# Altium schematic symbol library RES.SchLib: 149 symbols (part 1 of 2)
Pins are listed as number, name and electrical type; pins without a type are passive.

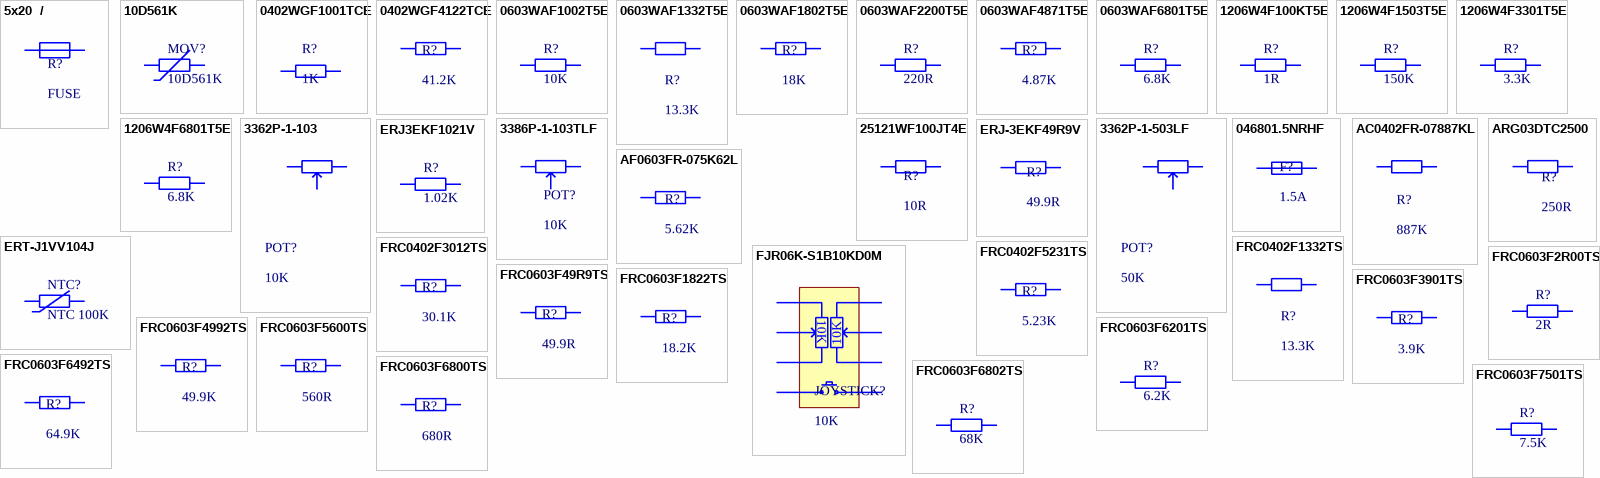
[diagram p0: symbols 5x20  / to FRC0603F7501TS]

## 5x20  /
designator R?, comment FUSE
Cylindrical Clip Through Hole,P=4.8mm Fuseholders RoHS; Manufacturer: Xucheng Elec; Mfr.Part #: 5x20  /; Package: Through Hole,P=4.8mm; LCSC Part #: C3130; DigiKey Part Number: NO; ComponentLink1Description: Link; ComponentLink1URL: https://www.lcsc.com/product-detail/C3130.html
footprint Through Hole,P=4.8mm
pins: 1, 2

## 10D561K
designator MOV?
920V 460V 350V 504V~616V Through Hole,P=7.5mm Varistors, MOVs RoHS; Manufacturer: RUILON; Mfr.Part #: 10D561K; Package: Through Hole,P=7.5mm; LCSC Part #: C233178; DigiKey Part Number: 5789-10D561K-ND
footprint Through Hole,P=7.5mm
pins: 1, 2

## 0402WGF1001TCE
designator R?, comment 1K
62.5mW Thick Film Resistor 50V ±100ppm/℃ ±1% 1kΩ 0402 Chip Resistor - Surface Mount ROHS; Manufacturer: UNI-ROYAL(Uniroyal Elec); Mfr.Part #: 0402WGF1001TCE; Package: 0402; LCSC Part #: C11702; DigiKey Part Number: NO
footprint RES-0402
pins: 1, 2

## 0402WGF4122TCE
designator R?, comment 41.2K
41.2kΩ ±1% 62.5mW 0402 Thick Film Resistor; Manufacturer: UNI-ROYAL; Mfr.Part #: 0402WGF4122TCE; Package: 0402; LCSC Part #: C26978; DigiKey Part Number: NO; ComponentLink1Description: Link; ComponentLink1URL: https://www.lcsc.com/product-detail/C26978.html; ComponentLink2Description: Link 1
footprint RES-0402
pins: 1, 2

## 0603WAF1002T5E
designator R?, comment 10K
10kΩ ±1% 100mW 0603 Thick Film Resistor; Manufacturer: UNI-ROYAL; Mfr.Part #: 0603WAF1002T5E; Package: 0603; LCSC Part #: C25804; DigiKey Part Number: NO; ComponentLink1Description: Link; ComponentLink1URL: https://www.lcsc.com/product-detail/C25804.html?s_z=n_0603WAF1002T5E; ComponentLink2Description: Link 1
footprint RES-0603
pins: 1, 2

## 0603WAF1332T5E
designator R?, comment 13.3K
100mW 13.3kΩ 75V ±100ppm/℃ Thick Film Resistor ±1% 0603 Chip Resistor - Surface Mount ROHS; Manufacturer: UNI-ROYAL; Mfr.Part #: 0603WAF1332T5E; Package: 0603; LCSC Part #: C25952
footprint RES-0603
pins: 1, 2

## 0603WAF1802T5E
designator R?, comment 18K
18kΩ ±1% 100mW 0603 Thick Film Resistor; Manufacturer: UNI-ROYAL; Mfr.Part #: 0603WAF1802T5E; Package: 0603; LCSC Part #: C25810; DigiKey Part Number: NO; ComponentLink1Description: Link; ComponentLink1URL: https://www.lcsc.com/product-detail/C25810.html?s_z=n_18K; ComponentLink2Description: Link 1
footprint RES-0603
footprint RES-0603-1
pins: 1, 2

## 0603WAF2200T5E
designator R?, comment 220R
220Ω ±1% 100mW 0603 Thick Film Resistor; Manufacturer: UNI-ROYAL; Mfr.Part #: 0603WAF2200T5E; Package: 0603; LCSC Part #: C22962; DigiKey Part Number: NO; ComponentLink1Description: Link; ComponentLink1URL: https://www.lcsc.com/product-detail/C22962.html?s_z=n_0603waf22; ComponentLink2Description: Link 1
footprint RES-0603
pins: 1, 2

## 0603WAF4871T5E
designator R?, comment 4.87K
4.87kΩ ±1% 100mW 0603 Thick Film Resistor; Manufacturer: UNI-ROYAL; Mfr.Part #: 0603WAF4871T5E; Package: 0603; LCSC Part #: C23045; DigiKey Part Number: NO; ComponentLink1Description: Link; ComponentLink1URL: https://www.lcsc.com/product-detail/C23045.html?s_z=n_4.87K; ComponentLink2Description: Link 1
footprint RES-0603
pins: 1, 2

## 0603WAF6801T5E
designator R?, comment 6.8K
6.8kΩ ±1% 100mW 0603 Thick Film Resistor; Manufacturer: UNI-ROYAL; Mfr.Part #: 0603WAF6801T5E; Package: 0603; LCSC Part #: C23212; DigiKey Part Number: NO; ComponentLink1Description: Link; ComponentLink1URL: https://www.lcsc.com/product-detail/C23212.html?s_z=n_C23212; ComponentLink2Description: Link 1
footprint RES-0603
pins: 1, 2

## 1206W4F100KT5E
designator R?, comment 1R
1Ω ±1% 250mW 1206 Thick Film Resistor; Manufacturer: UNI-ROYAL; Mfr.Part #: 1206W4F100KT5E; LCSC Part #: C17928; Package: 1206; DigiKey Part Number: NO; ComponentLink1Description: Link; ComponentLink1URL: https://www.lcsc.com/product-detail/C17928.html; ComponentLink2Description: Link 1
footprint RES-1206
pins: 1, 2

## 1206W4F1503T5E
designator R?, comment 150K
150kΩ ±1% 250mW 1206 Thick Film Resistor; Manufacturer: UNI-ROYAL; Mfr.Part #: 1206W4F1503T5E; LCSC Part #: C17916; Package: 1206; DigiKey Part Number: NO; ComponentLink1Description: Link; ComponentLink1URL: https://www.lcsc.com/product-detail/C17916.html; ComponentLink2Description: Link 1
footprint RES-1206
pins: 1, 2

## 1206W4F3301T5E
designator R?, comment 3.3K
3.3kΩ ±1% 250mW 1206 Thick Film Resistor; Manufacturer: UNI-ROYAL; Mfr.Part #: 1206W4F3301T5E; LCSC Part #: C26032; Package: 1206; DigiKey Part Number: NO; ComponentLink1Description: Link; ComponentLink1URL: https://www.lcsc.com/product-detail/C26032.html; ComponentLink2Description: Link 1
footprint RES-1206
pins: 1, 2

## 1206W4F6801T5E
designator R?, comment 6.8K
6.8kΩ ±1% 250mW 1206 Thick Film Resistor; Manufacturer: UNI-ROYAL; Mfr.Part #: 1206W4F6801T5E; LCSC Part #: C26034; Package: 1206; DigiKey Part Number: NO; ComponentLink1Description: Link; ComponentLink1URL: https://www.lcsc.com/product-detail/C26034.html; ComponentLink2Description: Link 1
footprint RES-1206
pins: 1, 2

## 3362P-1-103
designator POT?, comment 10K
±10% 500mW 10kΩ Through Hole Trimmer Potentiometers RoHS; Mfr.Part #: 3362P-1-103; Manufacturer: BOCHEN; Package: Through Hole; LCSC Part #: C118956; DigiKey Part Number: NO
footprint VR-PLUGIN-3P
pins: 1, 2, 3

## 3362P-1-503LF
designator POT?, comment 50K
±10%  50kΩ Through Hole Carbon Film Potentiometer; Mfr.Part #: 3362P-1-503LF; Manufacturer: BOURNS; Package: Through Hole-3P,7x6.6mm; LCSC Part #: C81264; DigiKey Part Number: 3362P-503LF-ND; ComponentLink1Description: Link; ComponentLink1URL: https://www.lcsc.com/product-detail/C81264.html; ComponentLink2Description: Link 1; ComponentLink2URL: https://www.digikey.com/en/products/detail/bourns-inc/3362P-1-503LF/1003342?s=N4IgTCBcDaIMxwGxgAoFoCMaCsAGOAMgGIgC6AvkA
footprint Through Hole-3P,7x6.6mm
pins: 1, 2, 3

## 3386P-1-103TLF
designator POT?, comment 10K
10kΩ ±10% 500mW Through Hole-3P,9.5x9.5mm Potentiometers, Variable Resistors; Mfr.Part #: 3386P-1-103TLF; Manufacturer: BOURNS; RC1206FR-0710RL: 3386P-103TLF-ND; Package: Through Hole-3P,9.5x9.5mm; LCSC Part #: C116302
footprint 3386P
pins: 1, 2, 3

## 25121WF100JT4E
designator R?, comment 10R
1W Thick Film Resistor 200V ±1% ±400ppm/℃ 10Ω 2512 Chip Resistor - Surface Mount ROHS; Manufacturer: UNI-ROYAL; Mfr.Part #: 25121WF100JT4E; Package: 2512; LCSC Part #: C47019
footprint RES-2512
pins: 1, 2

## 046801.5NRHF
designator F?, comment 1.5A
Surface Mount Fuse 1.5A 1206 Fuses RoHS; Manufacturer: Littelfuse; Mfr.Part #: 046801.5NRHF; Package: 1206; LCSC Part #: 046801.5NRHF; DigiKey Part Number: F6023TR-ND
footprint FUSE-1206
pins: 1, 2

## AC0402FR-07887KL
designator R?, comment 887K
887kΩ 62.5mW 50V Thick Film Resistor ±100ppm/℃ ±1% 0402 Chip Resistor - Surface Mount RoHS; Manufacturer: YAGEO; Mfr.Part #: AC0402FR-07887KL; Package: 0402; LCSC Part #: C227254; DigiKey Part Number: 13-AC0402FR-07887KL-ND; ComponentLink1Description: Link; ComponentLink1URL: https://www.lcsc.com/product-detail/C227254.html; ComponentLink2Description: Link 1; ComponentLink2URL: https://www.digikey.com/en/products/detail/yageo/AC0402FR-07887KL/17009638?s=N4IgTCBcDaIIIGEAMAWJYBiAlAtEg7AByH4DSAMiALoC%2BQA
footprint RES-0402
pins: 1, 2

## AF0603FR-075K62L
designator R?, comment 5.62K
100mW Thick Film Resistors ±100ppm/℃ ±1% 5.62kΩ 0603 Chip Resistor - Surface Mount ROHS; Manufacturer: YAGEO; Mfr.Part #: AF0603FR-075K62L; Package: 0603; LCSC Part #: C4173499
footprint RES-0603
pins: 1, 2

## ARG03DTC2500
designator R?, comment 250R
100mW 250Ω 75V ±25ppm/℃ Thin Film Resistor ±0.5% 0603 Chip Resistor - Surface Mount RoHS; Manufacturer: Viking; Mfr.Part #: ARG03DTC2500; Package: 0603; LCSC Part #: C2828652; DigiKey Part Number: NO
footprint RES-0603
pins: 1, 2

## ERJ3EKF1021V
designator R?, comment 1.02K
100mW Thick Film Resistors ±100ppm/℃ ±1% 1.02kΩ 0603 Chip Resistor - Surface Mount ROHS; Manufacturer: PANASONIC; Mfr.Part #: ERJ3EKF1021V; Package: 0603; LCSC Part #: C402868
footprint RES-0603
pins: 1, 2

## ERJ-3EKF49R9V
designator R?, comment 49.9R
49.9 Ohms ±1% 0.1W, 1/10W Chip Resistor 0603 (1608 Metric) Automotive AEC-Q200 Thick Film; Manufacturer: Panasonic Electronic Components; Mfr.Part #: ERJ-3EKF49R9V; Package: 0603; DigiKey Part Number: P49.9HTR-ND; LCSC Part #: C403255
footprint RES-0603
pins: 1, 2

## ERT-J1VV104J
designator NTC?, comment NTC 100K
THERM NTC 100KOHM 4700K 0603; Mfr.Part #: ERT-J1VV104J; Manufacturer: Panasonic Electronic Components; Package: 0603; DigiKey Part Number: P10555TR-ND
footprint RES-0603
pins: 1, 2

## FJR06K-S1B10KD0M
designator JOYSTICK?, comment 10K
Axis Through Hole Joystick Potentiometer 46° 0.0125W; Mfr.Part #: FJR06K-S1B10KD0M; Manufacturer: Favor Electronics; Package: Through Hole; LCSC Part #: NO; DigiKey Part Number: 4434-FJR06K-S1B10KD0M-ND
footprint FJR06K-S1B10KD0M
pins: 1, 1', 2, 2', 3, 3', a, b

## FRC0402F1332TS
designator R?, comment 13.3K
13.3kΩ 62.5mW 50V ±100ppm/℃ Thick Film Resistor ±1% 0402 Chip Resistor - Surface Mount ROHS; Manufacturer: FOJAN; Mfr.Part #: FRC0402F1332TS; Package: 0402; LCSC Part #: C2974007
footprint RES-0402
pins: 1, 2

## FRC0402F3012TS
designator R?, comment 30.1K
30.1kΩ ±1% 62.5mW 0402 Thick Film Resistor; Manufacturer: FOJAN; Mfr.Part #: FRC0402F3012TS; Package: 0402; LCSC Part #: C2998131; DigiKey Part Number: NO; ComponentLink1Description: Link; ComponentLink1URL: https://www.lcsc.com/product-detail/C2998131.html; ComponentLink2Description: Link 1
footprint RES-0402
pins: 1, 2

## FRC0402F5231TS
designator R?, comment 5.23K
5.23kΩ ±1% 62.5mW 0402 Thick Film Resistor; Manufacturer: FOJAN; Mfr.Part #: FRC0402F5231TS; Package: 0402; LCSC Part #: C2933105; DigiKey Part Number: NO; ComponentLink1Description: Link; ComponentLink1URL: https://www.lcsc.com/product-detail/C2933105.html; ComponentLink2Description: Link 1
footprint RES-0402
pins: 1, 2

## FRC0603F2R00TS
designator R?, comment 2R
2Ω ±1% 100mW 0603 Thick Film Resistor; Manufacturer: FOJAN; Mfr.Part #: FRC0603F2R00TS; Package: 0603; LCSC Part #: C2933191; DigiKey Part Number: NO; ComponentLink1Description: Link; ComponentLink1URL: https://www.lcsc.com/product-detail/C2933191.html?s_z=n_2R&spm=wm.ssy.bg.0.xh&lcsc_vid=QVhYA1deElkMBVEAQVVWVAECEVVXUAcCTgNYUQVSEVAxVlNRQ1JaVVBRT1heXjsOAxUeFF5JWBYZEEoKFBINSQcJGk4dAgUUFAk%3D; ComponentLink2Description: Link 1
footprint RES-0603
pins: 1, 2

## FRC0603F49R9TS
designator R?, comment 49.9R
49.9Ω ±1% 100mW 0603 Thick Film Resistor; Manufacturer: FOJAN; Mfr.Part #: FRC0603F4992TS; Package: 0603; LCSC Part #: C2930110; DigiKey Part Number: NO; ComponentLink1Description: Link; ComponentLink1URL: https://www.lcsc.com/product-detail/C2930110.html?s_z=n_49.9; ComponentLink2Description: Link 1
footprint RES-0603
pins: 1, 2

## FRC0603F1822TS
designator R?, comment 18.2K
18.2kΩ ±1% 100mW 0603 Thick Film Resistor; Manufacturer: FOJAN; Mfr.Part #: FRC0603F1822TS; Package: 0603; LCSC Part #: C2933164; DigiKey Part Number: NO; ComponentLink1Description: Link; ComponentLink1URL: https://www.lcsc.com/product-detail/C2933164.html?s_z=n_18.2K; ComponentLink2Description: Link 1
footprint RES-0603
pins: 1, 2

## FRC0603F3901TS
designator R?, comment 3.9K
3.9kΩ ±1% 100mW 0603 Thick Film Resistor; Manufacturer: FOJAN; Mfr.Part #: FRC0603F3901TS; Package: 0603; LCSC Part #: C2907024; DigiKey Part Number: NO; ComponentLink1Description: Link; ComponentLink1URL: https://www.lcsc.com/product-detail/C2907024.html?s_z=n_3.9K; ComponentLink2Description: Link 1
footprint RES-0603
pins: 1, 2

## FRC0603F4992TS
designator R?, comment 49.9K
49.9kΩ ±1% 100mW 0603 Thick Film Resistor; Manufacturer: FOJAN; Mfr.Part #: FRC0603F4992TS; Package: 0603; LCSC Part #: C2930109; DigiKey Part Number: NO; ComponentLink1Description: Link; ComponentLink1URL: https://www.lcsc.com/product-detail/C2930109.html?s_z=n_49.9K; ComponentLink2Description: Link 1
footprint RES-0603
pins: 1, 2

## FRC0603F5600TS
designator R?, comment 560R
560Ω ±1% 100mW 0603 Thick Film Resistor; Manufacturer: FOJAN; Mfr.Part #: FRC0603F6492TS; Package: 0603; LCSC Part #: C2907052; DigiKey Part Number: NO; ComponentLink1Description: Link; ComponentLink1URL: https://www.lcsc.com/product-detail/C2907052.html?s_z=n_560r; ComponentLink2Description: Link 1
footprint RES-0603
footprint RES-0603-2
pins: 1, 2

## FRC0603F6201TS
designator R?, comment 6.2K
6.2kΩ ±1% 100mW 0603 Thick Film Resistor; Manufacturer: FOJAN; Mfr.Part #: FRC0603F6201TS; Package: 0603; LCSC Part #: C2907054; DigiKey Part Number: NO; ComponentLink1Description: Link; ComponentLink1URL: https://www.lcsc.com/product-detail/C2907054.html?s_z=n_6.2K; ComponentLink2Description: Link 1
footprint RES-0603
pins: 1, 2

## FRC0603F6492TS
designator R?, comment 64.9K
64.9kΩ ±1% 100mW 0603 Thick Film Resistor; Manufacturer: FOJAN; Mfr.Part #: FRC0603F6492TS; Package: 0603; LCSC Part #: C2960807; DigiKey Part Number: NO; ComponentLink1Description: Link; ComponentLink1URL: https://www.lcsc.com/product-detail/C2960807.html; ComponentLink2Description: Link 1
footprint RES-0603
pins: 1, 2

## FRC0603F6800TS
designator R?, comment 680R
680Ω ±1% 100mW 0603 Thick Film Resistor; Manufacturer: FOJAN; Mfr.Part #: FRC0603F6800TS; Package: 0603; LCSC Part #: C2907062; DigiKey Part Number: NO; ComponentLink1Description: Link; ComponentLink1URL: https://www.lcsc.com/product-detail/C2907062.html?s_z=n_680r; ComponentLink2Description: Link 1
footprint RES-0603
pins: 1, 2

## FRC0603F6802TS
designator R?, comment 68K
68kΩ ±1% 100mW 0603 Thick Film Resistor; Manufacturer: FOJAN; Mfr.Part #: FRC0603F6802TS; Package: 0603; LCSC Part #: C2907063; DigiKey Part Number: NO; ComponentLink1Description: Link; ComponentLink1URL: https://www.lcsc.com/product-detail/C2907063.html?s_z=n_68K; ComponentLink2Description: Link 1
footprint RES-0603
pins: 1, 2

## FRC0603F7501TS
designator R?, comment 7.5K
7.5kΩ ±1% 100mW 0603 Thick Film Resistor; Manufacturer: FOJAN; Mfr.Part #: FOJAN; Package: 0603; LCSC Part #: C2930127; DigiKey Part Number: NO; ComponentLink1Description: Link; ComponentLink1URL: https://www.lcsc.com/product-detail/C2930127.html?s_z=n_7.5K&spm=wm.ssy.bg.0.xh&lcsc_vid=QVhYA1deElkMBVEAQVVWVAECEVVXUAcCTgNYUQVSEVAxVlNRQ1JdUlBST1daVzsOAxUeFF5JWBYZEEoKFBINSQcJGk4eFQsCAgIaSgADAwAHC0slRVVbVV1fT08GEwkK; ComponentLink2Description: Link 1
footprint RES-0603
pins: 1, 2

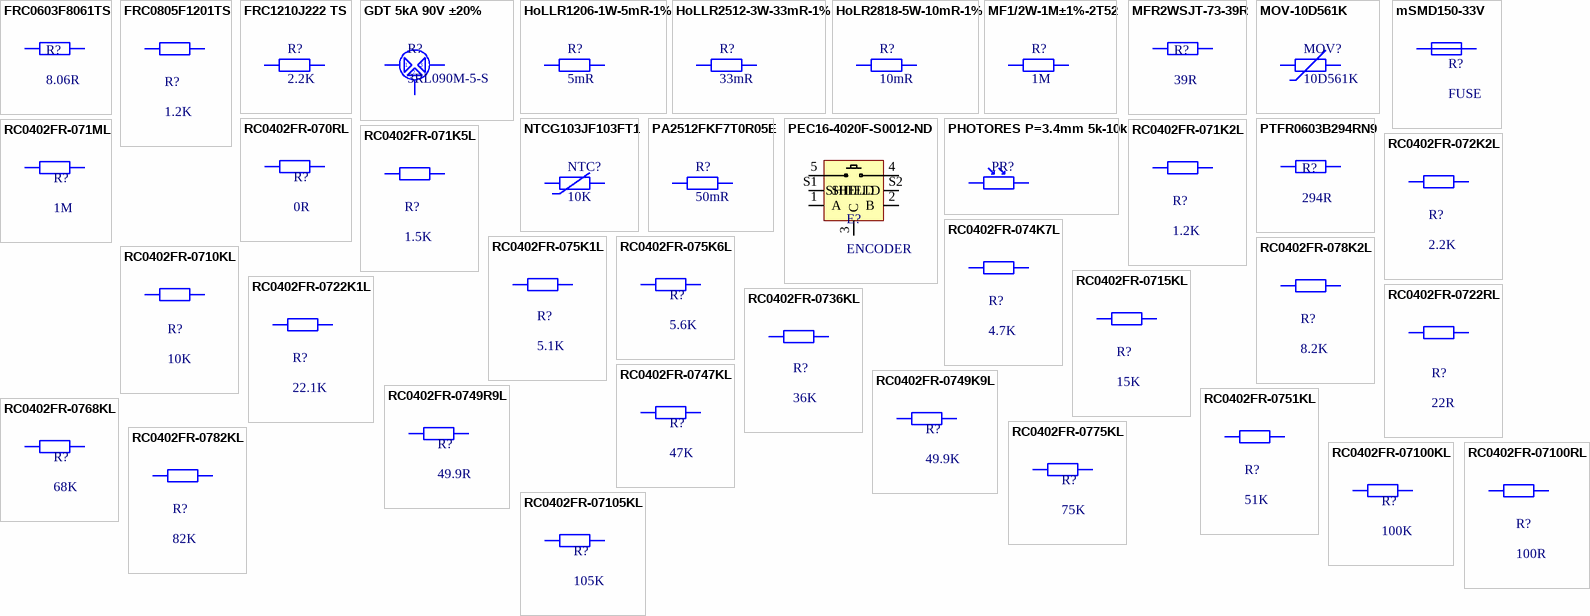
[diagram p1: symbols FRC0603F8061TS to RC0402FR-07105KL]

## FRC0603F8061TS
designator R?, comment 8.06R
8.06kΩ ±1% 100mW 0603 Thick Film Resistor; Manufacturer: FOJAN; Mfr.Part #: FRC0603F8061TS; Package: 0603; LCSC Part #: C2960681; DigiKey Part Number: NO; ComponentLink1Description: Link; ComponentLink1URL: https://www.lcsc.com/product-detail/C2960681.html?s_z=n_8.06; ComponentLink2Description: Link 1
footprint RES-0603
pins: 1, 2

## FRC0805F1201TS
designator R?, comment 1.2K
1.2kΩ ±1% 125mW 0805 Thick Film Resistor; Manufacturer: FOJAN; Mfr.Part #: FRC0805F1201TS; Package: 0805; LCSC Part #: C2933293; DigiKey Part Number: NO; ComponentLink1Description: Link; ComponentLink1URL: https://www.lcsc.com/product-detail/C2933293.html?s_z=n_1.2K; ComponentLink2Description: Link 1
footprint RES-0805-1
footprint RES-0805
pins: 1, 2

## FRC1210J222 TS
designator R?, comment 2.2K
500mW Thick Film Resistors 200V ±100ppm/℃ ±5% 2.2kΩ 1210 Chip Resistor - Surface Mount ROHS; Manufacturer: FOJAN; Mfr.Part #: FRC1210J222 TS; Package: 1210; LCSC Part #: C2960928
footprint RES-1210
pins: 1, 2

## GDT 5kA 90V ±20%
designator R?, comment 3RL090M-5-S
±20% 5kA 90V 3 SMD,5x6.6mm Gas Discharge Tube Arresters (GDT) ROHS; Manufacturer: Brightking; Name: GDT 5kA 90V ±20%; So_Chan_Dan: 3; So_Chan_Cam: 0; Mfr.Part #: 3RL090M-5-S; Package: SMD,5x6.6mm
footprint SMD,5x6.6mm
pins: 1, 2, 3

## HoLLR1206-1W-5mR-1%
designator R?, comment 5mR
1W 5mΩ Current Sense Resistor ±1% ±50ppm/℃ 1206 Chip Resistor - Surface Mount RoHS; Manufacturer: Milliohm; Mfr.Part #: HoLLR1206-1W-5mR-1%; Package: 1206; LCSC Part #: C2988648; DigiKey Part Number: NO; ComponentLink1Description: Link; ComponentLink1URL: https://www.lcsc.com/product-detail/C2988648.html?spm=wm.fly.bg.4.xh&lcsc_vid=FAdbA1BQFQNeV1UEFlgLA1FWRVFXUVBeEwJXVAFQRVUxVlNRQ1NbVFVRQFdeVzsOAxUeFF5JWBYZEEoKFBINSQcJGk4dAgUUFAk%3D; ComponentLink2Description: Link 1
footprint RES-1206
pins: 1, 2

## HoLLR2512-3W-33mR-1%
designator R?, comment 33mR
33mΩ 3W Current Sense Resistor ±1% ±50ppm/℃ 2512 Chip Resistor - Surface Mount RoHS; Manufacturer: Milliohm; Mfr.Part #: HoLLR2512-3W-33mR-1%; Package: 2512; LCSC Part #: C2985721; DigiKey Part Number: NO; ComponentLink1Description: Link; ComponentLink1URL: https://www.lcsc.com/product-detail/C2985721.html?spm=wm.fly.bg.0.xh&lcsc_vid=EQVeAlBQE1lfUQdeRVANVgZXElUKUAUCRwdWVVRWQVUxVlNRQ1hbUlRURFJdVDtW; ComponentLink2Description: Link 1
footprint RES-2512
pins: 1, 2

## HoLR2818-5W-10mR-1%
designator R?, comment 10mR
5W 10mΩ Patch Current Sensing Resistors ±1% 2818 Current Sense Resistors / Shunt Resistors ROHS; Manufacturer: Milliohm; Mfr.Part #: HoLR2818-5W-10mR-1%; Package: 2818
footprint RES-0603
pins: 1, 2

## MF1/2W-1M±1%-2T52
designator R?, comment 1M
Metal Film Resistors 1MΩ 500mW ±100ppm/℃ ±1% Plugin,D3.5xL9mm Through Hole Resistors ROHS; Manufacturer: VO; Mfr.Part #: MF1/2W-1M±1%-2T52; So_Chan_Dan: 2; So_Chan_Cam: 0; Package: Plugin,D3.5xL9mm; Name: MF1/2W-1M±1%-2T52
footprint Plugin,D3.5xL9mm
pins: 1, 2

## MFR2WSJT-73-39R
designator R?, comment 39R
39Ω 2W Metal Film Resistor ±5% Through Hole,D4.5xL11.5mm Through Hole Resistors RoHS; Manufacturer: YAGEO; Mfr.Part #: MFR2WSJT-73-39R; Package: Through Hole,D4.5xL11.5mm; LCSC Part #: C176578; DigiKey Part Number: NO; ComponentLink1Description: Link; ComponentLink1URL: https://www.lcsc.com/product-detail/C176578.html?s_z=n_C176578; ComponentLink2Description: Link 1
footprint Plugin,D4.5xL11.5mm
pins: 1, 2

## MOV-10D561K
designator MOV?, comment 10D561K
925V 460V 350V 560V Through Hole,P=7.5mm Varistors, MOVs ROHS; Manufacturer: Bourns Inc.; Mfr.Part #: MOV-10D561K; Package: Through Hole,P=7.5mm; LCSC Part #: C3263770; DigiKey Part Number: 118-MOV-10D561K-ND
footprint Through Hole,P=7.5mm - 1
pins: 1, 2

## mSMD150-33V
designator R?, comment FUSE
33V 1.5A 100A 3A 1812 Resettable Fuses ROHS; Manufacturer: TECHFUSE; Mfr.Part #: mSMD150-33V; Package: 1812; LCSC Part #: C2937110
footprint CAP-0402
pins: 1, 2

## NTCG103JF103FT1
designator NTC?, comment 10K
10kΩ ±1% 310uA 3380K 100mW ±1% 0402 NTC Thermistors RoHS; Mfr.Part #: NTCG103JF103FT1; Manufacturer: TDK; Package: 0402; DigiKey Part Number: 445-2550-2-ND; LCSC Part #: C209959
footprint CAP-0402
pins: 1, 2

## PA2512FKF7T0R05E
designator R?, comment 50mR
3W ±100ppm/℃ ±1% 50mΩ 2512 Chip Resistor - Surface Mount ROHS; Manufacturer: YAGEO; Mfr.Part #: PA2512FKF7T0R05E; Package: 2512
footprint RES-2512
pins: 1, 2

## PEC16-4020F-S0012-ND
designator E?, comment ENCODER
Rotary Encoder Mechanical 12 Quadrature (Incremental) Vertical; Manufacturer: Bourns Inc.; Mfr.Part #: PEC16-4020F-S0012; Package: Through Hole; LCSC Part #: NO; DigiKey Part Number: PEC16-4020F-S0012-ND
footprint EC16
pins: 1 A, 2 B, 3 C, 4 BT2, 5 BT1, S1 SHIELD, S2 SHIELD

## PHOTORES P=3.4mm 5k-10k
designator PR?, comment Photoresistors  (value not drawn)
5kΩ~10kΩ 540nm 200kΩ Plugin,P=3.4mm Photoresistors ROHS; Mfr.Part #: GL5516(5-10); Manufacturer: JCHL(Shenzhen Jing Chuang He Li Tech); So_Chan_Dan: 0; Name: PHOTORES  5kΩ~10kΩ 540nm Plugin,P=3.4mm; So_Chan_Cam: 2; Package: Plugin,P=3.4mm
footprint Plugin,P=3.4mm
pins: 1, 2

## PTFR0603B294RN9
designator R?, comment 294R
100mW 294Ω 100V Thin Film Resistor ±0.1% ±10ppm/℃ 0603 Chip Resistor - Surface Mount RoHS; Manufacturer: RESI; Mfr.Part #: PTFR0603B294RN9; Package: 0603; LCSC Part #: C47115923; DigiKey Part Number: NO; ComponentLink1Description: Link; ComponentLink1URL: https://www.lcsc.com/product-detail/C47115923.html; ComponentLink2Description: Link 1
footprint CAP-0603
pins: 1, 2

## RC0402FR-070RL
designator R?, comment 0R
62.5mW Thick Film Resistor 50V ±1% 0Ω 0402 Chip Resistor - Surface Mount ROHS; Manufacturer: YAGEO; Mfr.Part #: RC0402FR-070RL; Package: 0402; LCSC Part #: C106231; DigiKey Part Number: 311-0.0LRTR-ND
footprint RES-0402
pins: 1, 2

## RC0402FR-071K2L
designator R?, comment 1.2K
62.5mW 1.2kΩ 50V ±100ppm/℃ Thick Film Resistor ±1% 0402 Chip Resistor - Surface Mount RoHS; Manufacturer: YAGEO; Mfr.Part #: RC0402FR-071K2L; Package: 0402; LCSC Part #: C138040; DigiKey Part Number: 311-1.20KLRTR-ND
footprint RES-0402
pins: 1, 2

## RC0402FR-071K5L
designator R?, comment 1.5K
62.5mW 1.5kΩ 50V ±100ppm/℃ Thick Film Resistor ±1% 0402 Chip Resistor - Surface Mount RoHS; Manufacturer: YAGEO; Mfr.Part #: RC0402FR-071K5L; Package: 0402; LCSC Part #: C114759; DigiKey Part Number: 311-1.50KLRTR-ND
footprint RES-0402
pins: 1, 2

## RC0402FR-071ML
designator R?, comment 1M
62.5mW Thick Film Resistor 50V ±100ppm/℃ ±1% 1MΩ 0402 Chip Resistor - Surface Mount ROHS; Manufacturer: YAGEO; Mfr.Part #: RC0402FR-071ML; Package: 0402; LCSC Part #: C138033
footprint RES-0402
pins: 1, 2

## RC0402FR-072K2L
designator R?, comment 2.2K
62.5mW 2.2kΩ 50V ±100ppm/℃ Thick Film Resistor ±1% 0402 Chip Resistor - Surface Mount RoHS; Manufacturer: YAGEO; Mfr.Part #: RC0402FR-072K2L; Package: 0402; LCSC Part #: C114762; DigiKey Part Number: 311-2.20KLRTR-ND
footprint RES-0402
pins: 1, 2

## RC0402FR-074K7L
designator R?, comment 4.7K
62.5mW Thick Film Resistor 50V ±100ppm/℃ ±1% 4.7kΩ 0402 Chip Resistor - Surface Mount ROHS; Manufacturer: YAGEO; Mfr.Part #: RC0402FR-074K7L; Package: 0402; LCSC Part #: C105871; DigiKey Part Number: 311-4.7KLRTR-ND
footprint RES-0402
pins: 1, 2

## RC0402FR-075K1L
designator R?, comment 5.1K
5.1kΩ 62.5mW 50V ±100ppm/℃ Thick Film Resistor ±1% 0402 Chip Resistor - Surface Mount RoHS; Manufacturer: YAGEO; Mfr.Part #: RC0402FR-075K1L; Package: 0402; LCSC Part #: C105872; DigiKey Part Number: 311-5.10KLRTR-ND
footprint RES-0402
pins: 1, 2

## RC0402FR-075K6L
designator R?, comment 5.6K
5.6kΩ 62.5mW 50V ±100ppm/℃ Thick Film Resistor ±1% 0402 Chip Resistor - Surface Mount ROHS; Manufacturer: YAGEO; Mfr.Part #: RC0402FR-075K6L; Package: 0402; LCSC Part #: C163457
footprint RES-0402
pins: 1, 2

## RC0402FR-078K2L
designator R?, comment 8.2K
8.2kΩ 62.5mW 50V ±100ppm/℃ Thick Film Resistor ±1% 0402 Chip Resistor - Surface Mount RoHS; Manufacturer: YAGEO; Mfr.Part #: RC0402FR-078K2L; Package: 0402; LCSC Part #: C137929; DigiKey Part Number: 311-8.20KLRTR-ND
footprint RES-0402
pins: 1, 2

## RC0402FR-0710KL
designator R?, comment 10K
62.5mW Thick Film Resistors 50V ±100ppm/℃ ±1% 10kΩ 0402 Chip Resistor - Surface Mount ROHS; Manufacturer: YAGEO; Mfr.Part #: RC0402FR-0710KL; Package: 0402; LCSC Part #: C60490; DigiKey Part Number: 311-10.0KLRTR-ND
footprint RES-0402
pins: 1, 2

## RC0402FR-0715KL
designator R?, comment 15K
15kΩ 62.5mW 50V Thick Film Resistor ±100ppm/℃ ±1% 0402 Chip Resistor - Surface Mount RoHS; Manufacturer: YAGEO; Mfr.Part #: RC0402FR-0715KL; Package: 0402; LCSC Part #: C114761; DigiKey Part Number: 311-4.7KLRTR-ND; ComponentLink1Description: Link; ComponentLink1URL: https://www.lcsc.com/product-detail/C114761.html?s_z=n_15K; ComponentLink2Description: Link 1; ComponentLink2URL: https://www.digikey.com/en/products/detail/yageo/RC0402FR-0715KL/726541?s=N4IgTCBcDaIEoGEAMAWJYBicC0SDsAjAKwDSAMiALoC%2BQA
footprint RES-0402
pins: 1, 2

## RC0402FR-0722K1L
designator R?, comment 22.1K
22.1kΩ 62.5mW 50V ±100ppm/℃ Thick Film Resistor ±1% 0402 Chip Resistor - Surface Mount RoHS; Manufacturer: YAGEO; Mfr.Part #: RC0402FR-0722K1L; Package: 0402; LCSC Part #: C163478; DigiKey Part Number: 311-22.1KLRTR-ND
footprint RES-0402
pins: 1, 2

## RC0402FR-0722RL
designator R?, comment 22R
62.5mW Thick Film Resistor 50V ±100ppm/℃ ±1% 22Ω 0402 Chip Resistor - Surface Mount ROHS; Manufacturer: YAGEO; Mfr.Part #: RC0402FR-0722RL; Package: 0402; LCSC Part #: C114765; DigiKey Part Number: 311-22.0LRTR-ND
footprint RES-0402
pins: 1, 2

## RC0402FR-0736KL
designator R?, comment 36K
62.5mW Thick Film Resistor 50V ±100ppm/℃ ±1% 36kΩ 0402 Chip Resistor - Surface Mount ROHS; Manufacturer: YAGEO; Mfr.Part #: RC0402FR-0736KL; Package: 0402; LCSC Part #: C137999; DigiKey Part Number: 311-36.0KLRTR-ND
footprint RES-0402
pins: 1, 2

## RC0402FR-0747KL
designator R?, comment 47K
62.5mW Thick Film Resistor 50V ±1% 0Ω 0402 Chip Resistor - Surface Mount ROHS; Manufacturer: YAGEO; Mfr.Part #: RC0402FR-0747KL; Package: 0402; LCSC Part #: C93943; DigiKey Part Number: 311-47.0KLRTR-ND
footprint RES-0402
pins: 1, 2

## RC0402FR-0749K9L
designator R?, comment 49.9K
62.5mW 49.9kΩ 50V ±100ppm/℃ Thick Film Resistor ±1% 0402 Chip Resistor - Surface Mount ROHS; Manufacturer: YAGEO; Mfr.Part #: RC0402FR-0749K9L; Package: 0402; LCSC Part #: C137969
footprint RES-0402
pins: 1, 2

## RC0402FR-0749R9L
designator R?, comment 49.9R
49.9Ω 62.5mW 50V ±100ppm/℃ Thick Film Resistor ±1% 0402 Chip Resistor - Surface Mount ROHS; Manufacturer: YAGEO; Mfr.Part #: RC0402FR-0749R9L; Package: 0402; LCSC Part #: C87044; DigiKey Part Number: 311-49.9LRTR-ND
footprint RES-0402
pins: 1, 2

## RC0402FR-0751KL
designator R?, comment 51K
62.5mW 51kΩ 50V ±100ppm/℃ Thick Film Resistor ±1% 0402 Chip Resistor - Surface Mount RoHS; Manufacturer: YAGEO; Mfr.Part #: RC0402FR-0751KL; Package: 0402; LCSC Part #: C107229; DigiKey Part Number: 311-51.0KLRTR-ND
footprint RES-0402
pins: 1, 2

## RC0402FR-0768KL
designator R?, comment 68K
68kΩ 62.5mW 50V ±100ppm/℃ Thick Film Resistor ±1% 0402 Chip Resistor - Surface Mount RoHS; Manufacturer: YAGEO; Mfr.Part #: RC0402FR-0768KL; Package: 0402; LCSC Part #: C137947; DigiKey Part Number: 311-68.0KLRTR-ND
footprint RES-0402
pins: 1, 2

## RC0402FR-0775KL
designator R?, comment 75K
62.5mW Thick Film Resistor 50V ±1% 0Ω 0402 Chip Resistor - Surface Mount ROHS; Manufacturer: YAGEO; Mfr.Part #: RC0402FR-0775KL; Package: 0402; LCSC Part #: C137935
footprint RES-0402
pins: 1, 2

## RC0402FR-0782KL
designator R?, comment 82K
62.5mW 82kΩ 50V ±100ppm/℃ Thick Film Resistor ±1% 0402 Chip Resistor - Surface Mount RoHS; Manufacturer: YAGEO; Mfr.Part #: RC0402FR-0782KL; Package: 0402; LCSC Part #: C137932; DigiKey Part Number: 311-82.0KLRTR-ND
footprint RES-0402
pins: 1, 2

## RC0402FR-07100KL
designator R?, comment 100K
62.5mW Thick Film Resistors 50V ±100ppm/℃ ±1% 100kΩ 0402 Chip Resistor - Surface Mount ROHS; Manufacturer: YAGEO; Mfr.Part #: RC0402FR-07100KL; Package: 0402; LCSC Part #: C60491; DigiKey Part Number: 311-100KLRTR-ND
footprint RES-0402
pins: 1, 2

## RC0402FR-07100RL
designator R?, comment 100R
62.5mW Thick Film Resistors 50V ±100ppm/℃ ±1% 100Ω 0402 Chip Resistor - Surface Mount ROHS; Manufacturer: YAGEO; Mfr.Part #: RC0402FR-07100RL; Package: 0402; LCSC Part #: C106232; DigiKey Part Number: 311-100LRTR-ND
footprint RES-0402
pins: 1, 2

## RC0402FR-07105KL
designator R?, comment 105K
62.5mW 105kΩ 50V ±100ppm/℃ Thick Film Resistor ±1% 0402 Chip Resistor - Surface Mount ROHS; Manufacturer: YAGEO; Mfr.Part #: RC0402FR-07105KL; Package: 0402; LCSC Part #: C171671; DigiKey Part Number: YAG2946TR-ND
footprint RES-0402
pins: 1, 2

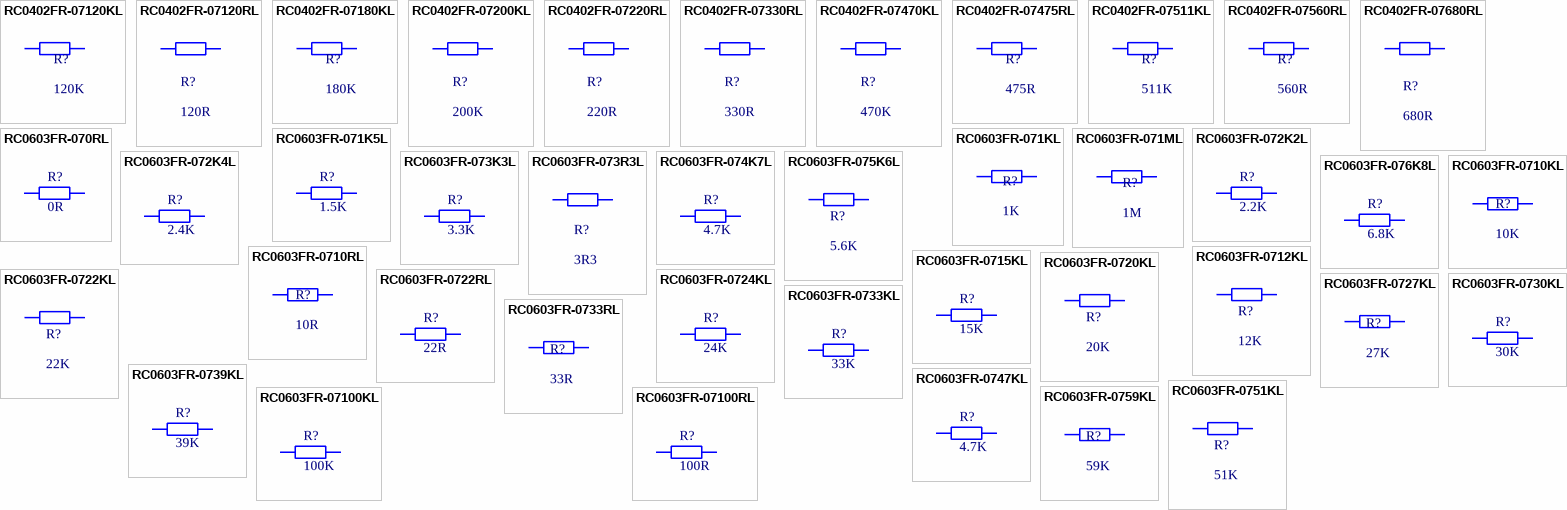
[diagram p2: symbols RC0402FR-07120KL to RC0603FR-07100RL]

## RC0402FR-07120KL
designator R?, comment 120K
62.5mW 120kΩ 50V ±100ppm/℃ Thick Film Resistor ±1% 0402 Chip Resistor - Surface Mount RoHS; Manufacturer: YAGEO; Mfr.Part #: RC0402FR-07120KL; Package: 0402; LCSC Part #: C93945; DigiKey Part Number: 311-120KLRTR-ND
footprint RES-0402
pins: 1, 2

## RC0402FR-07120RL
designator R?, comment 120R
120Ω 62.5mW 50V ±100ppm/℃ Thick Film Resistor ±1% 0402 Chip Resistor - Surface Mount RoHS; Manufacturer: YAGEO; Mfr.Part #: RC0402FR-07120RL; Package: 0402; LCSC Part #: C114758; DigiKey Part Number: 311-120LRTR-ND
footprint RES-0402
pins: 1, 2

## RC0402FR-07180KL
designator R?, comment 180K
62.5mW 180kΩ 50V ±100ppm/℃ Thick Film Resistor ±1% 0402 Chip Resistor - Surface Mount RoHS; Manufacturer: YAGEO; Mfr.Part #: RC0402FR-07180KL; Package: 0402; LCSC Part #: C138046; DigiKey Part Number: 311-180KLRTR-ND
footprint RES-0402
pins: 1, 2

## RC0402FR-07200KL
designator R?, comment 200K
200kΩ 62.5mW 50V Thick Film Resistor ±100ppm/℃ ±1% 0402 Chip Resistor - Surface Mount RoHS; Manufacturer: YAGEO; Mfr.Part #: RC0402FR-07200KL; Package: 0402; LCSC Part #: C114763; DigiKey Part Number: 311-200KLRTR-ND; ComponentLink1Description: Link; ComponentLink1URL: https://www.lcsc.com/product-detail/C114763.html?s_z=n_200K; ComponentLink2Description: Link 1; ComponentLink2URL: https://www.digikey.com/en/products/detail/yageo/RC0402FR-07200KL/726558?s=N4IgTCBcDaIEoGEAMAWJYBicC0SDsYSSA0gDIgC6AvkA
footprint RES-0402
pins: 1, 2

## RC0402FR-07220RL
designator R?, comment 220R
62.5mW Thick Film Resistors 50V ±100ppm/℃ ±1% 220Ω 0402 Chip Resistor - Surface Mount ROHS; Manufacturer: YAGEO; Mfr.Part #: RC0402FR-07220RL; Package: 0402; LCSC Part #: C112291; DigiKey Part Number: 311-220LRTR-ND
footprint RES-0402
pins: 1, 2

## RC0402FR-07330RL
designator R?, comment 330R
330Ω 62.5mW 50V ±100ppm/℃ Thick Film Resistor ±1% 0402 Chip Resistor - Surface Mount RoHS; Manufacturer: YAGEO; Mfr.Part #: RC0402FR-07330RL; Package: 0402; LCSC Part #: C105875; DigiKey Part Number: 311-330LRTR-ND
footprint RES-0402
pins: 1, 2

## RC0402FR-07470KL
designator R?, comment 470K
62.5mW 470kΩ 50V Thick Film Resistor ±100ppm/℃ ±1% 0402 Chip Resistor - Surface Mount RoHS; Manufacturer: YAGEO; Mfr.Part #: RC0402FR-07470KL; Package: 0402; LCSC Part #: C137976; DigiKey Part Number: 311-470KLRTR-ND; ComponentLink1Description: Link; ComponentLink1URL: https://www.lcsc.com/product-detail/C137976.html?s_z=n_470K; ComponentLink2Description: Link 1; ComponentLink2URL: https://www.digikey.com/en/products/detail/yageo/RC0402FR-07470KL/726618?s=N4IgTCBcDaIEoGEAMAWJYBicC0SDsKeSA0gDIgC6AvkA
footprint RES-0402
pins: 1, 2

## RC0402FR-07475RL
designator R?, comment 475R
62.5mW Thick Film Resistor 50V ±100ppm/℃ ±1% 475Ω 0402 Chip Resistor - Surface Mount ROHS; Manufacturer: YAGEO; Mfr.Part #: RC0402FR-07475RL; Package: 0402; LCSC Part #: C137975; DigiKey Part Number: 311-475LRTR-ND
footprint RES-0402
pins: 1, 2

## RC0402FR-07511KL
designator R?, comment 511K
511kΩ 62.5mW 50V ±100ppm/℃ Thick Film Resistor ±1% 0402 Chip Resistor - Surface Mount ROHS; Manufacturer: YAGEO; Mfr.Part #: RC0402FR-07511KL; Package: 0402; LCSC Part #: C163461; DigiKey Part Number: YAG3176TR-ND
footprint RES-0402
pins: 1, 2

## RC0402FR-07560RL
designator R?, comment 560R
62.5mW 560Ω 50V ±100ppm/℃ Thick Film Resistor ±1% 0402 Chip Resistor - Surface Mount ROHS; Manufacturer: YAGEO; Mfr.Part #: RC0402FR-07560RL; Package: 0402; LCSC Part #: C163460
footprint RES-0402
pins: 1, 2

## RC0402FR-07680RL
designator R?, comment 680R
62.5mW Thick Film Resistors 50V ±100ppm/℃ ±1% 680Ω 0402 Chip Resistor - Surface Mount ROHS; Manufacturer: YAGEO; Mfr.Part #: RC0402FR-07680RL; Package: 0402; LCSC Part #: C137948
footprint RES-0402
pins: 1, 2

## RC0603FR-070RL
designator R?, comment 0R
0Ω 100mW 75V Thick Film Resistor ±1% 0603 Chip Resistor - Surface Mount RoHS; Mfr.Part #: RC0603FR-070RL; Manufacturer: YAGEO; Package: 0603; LCSC Part #: C100044; DigiKey Part Number: 311-0.0HRTR-ND; ComponentLink1Description: Link; ComponentLink1URL: https://www.lcsc.com/product-detail/C100044.html?s_z=n_0R; ComponentLink2Description: Link 1; ComponentLink2URL: https://www.digikey.com/en/products/detail/yageo/RC0603FR-070RL/1304008?s=N4IgTCBcDaIEoGEAMA2JBmAYnAtEg7EnADIgC6AvkA
footprint RES-0603
pins: 1, 2

## RC0603FR-071K5L
designator R?, comment 1.5K
100mW 1.5kΩ 75V Thick Film Resistor ±100ppm/℃ ±1% 0603 Chip Resistor - Surface Mount RoHS; Manufacturer: YAGEO; Mfr.Part #: RC0603FR-071K5L; Package: 0603; LCSC Part #: C114668; DigiKey Part Number: 311-1.50KHRTR-ND; ComponentLink1Description: Link; ComponentLink1URL: https://www.lcsc.com/product-detail/C114668.html?s_z=n_1.5K; ComponentLink2Description: Link 1; ComponentLink2URL: https://www.digikey.com/en/products/detail/yageo/RC0603FR-071K5L/726864?s=N4IgTCBcDaIEoGEAMA2JBmAYnAtEg7AIwDSArADIgC6AvkA
footprint RES-0603
pins: 1, 2

## RC0603FR-071KL
designator R?, comment 1K
100mW 1kΩ 75V Thick Film Resistor ±100ppm/℃ ±1% 0603 Chip Resistor - Surface Mount RoHS; Manufacturer: YAGEO; Mfr.Part #: RC0603FR-071KL; Package: 0603; LCSC Part #: C22548; DigiKey Part Number: 311-1.00KHRTR-ND; ComponentLink1Description: Link; ComponentLink1URL: https://www.lcsc.com/product-detail/C22548.html?s_z=n_C22548; ComponentLink2Description: Link 1; ComponentLink2URL: https://www.digikey.com/en/products/detail/yageo/RC0603FR-071KL/726843?s=N4IgTCBcDaIEoGEAMA2JBmAYnAtEg7AIwDSAMiALoC%2BQA
footprint RES-0603
pins: 1, 2

## RC0603FR-071ML
designator R?, comment 1M
100mW Thick Film Resistors 75V ±100ppm/℃ ±1% 1MΩ 0603 Chip Resistor - Surface Mount ROHS; Manufacturer: YAGEO; Mfr.Part #: RC0603FR-071ML; Package: 0603; LCSC Part #: C105578
footprint RES-0603
pins: 1, 2

## RC0603FR-072K2L
designator R?, comment 2.2K
100mW 2.2kΩ 75V Thick Film Resistor ±100ppm/℃ ±1% 0603 Chip Resistor - Surface Mount RoHS; Manufacturer: YAGEO; Mfr.Part #: RC0603FR-072K2L; Package: 0603; LCSC Part #: C114662; DigiKey Part Number: 311-2.20KHRTR-ND; ComponentLink1Description: Link; ComponentLink1URL: https://www.lcsc.com/product-detail/C114662.html?s_z=n_2.2K; ComponentLink2Description: Link 1; ComponentLink2URL: https://www.digikey.com/en/products/detail/yageo/RC0603FR-072K2L/727016?s=N4IgTCBcDaIEoGEAMA2JBmAYnAtEg7GANJgAyIAugL5A
footprint RES-0603
pins: 1, 2

## RC0603FR-072K4L
designator R?, comment 2.4K
100mW 2.4kΩ 75V Thick Film Resistor ±100ppm/℃ ±1% 0603 Chip Resistor - Surface Mount RoHS; Manufacturer: YAGEO; Mfr.Part #: RC0603FR-072K4L; Package: 0603; LCSC Part #: C114611; DigiKey Part Number: 311-2.40KHRTR-ND; ComponentLink1Description: Link; ComponentLink1URL: https://www.lcsc.com/product-detail/C126359.html?s_z=n_33K; ComponentLink2Description: Link 1; ComponentLink2URL: https://www.digikey.com/en/products/detail/yageo/RC0603FR-072K4L/727023?s=N4IgTCBcDaIEoGEAMA2JBmAYnAtEg7GANIAsAMiALoC%2BQA
footprint RES-0603
pins: 1, 2

## RC0603FR-073K3L
designator R?, comment 3.3K
100mW 3.3kΩ 75V Thick Film Resistor ±100ppm/℃ ±1% 0603 Chip Resistor - Surface Mount RoHS; Manufacturer: YAGEO; Mfr.Part #: RC0603FR-073K3L; Package: 0603; LCSC Part #: C108078; DigiKey Part Number: 311-3.30KHRTR-ND; ComponentLink1Description: Link; ComponentLink1URL: https://www.lcsc.com/product-detail/C108078.html?s_z=n_RC0603FR-073K3L; ComponentLink2Description: Link 1; ComponentLink2URL: https://www.digikey.com/en/products/detail/yageo/RC0603FR-073K3L/727126?s=N4IgTCBcDaIEoGEAMA2JBmAYnAtEg7OgNLoAyIAugL5A
footprint RES-0603
pins: 1, 2

## RC0603FR-073R3L
designator R?, comment 3R3
100mW 3.3Ω 75V Thick Film Resistor ±1% ±200ppm/℃ 0603 Chip Resistor - Surface Mount RoHS; Manufacturer: YAGEO; Mfr.Part #: RC0603FR-073R3L; Package: 0603; LCSC Part #: C137725; DigiKey Part Number: 13-RC0603FR-073R3LTR-ND; ComponentLink1Description: Link; ComponentLink1URL: https://www.lcsc.com/product-detail/C137725.html?s_z=n_RC0603FR-073R3L; ComponentLink2Description: Link 1; ComponentLink2URL: https://www.digikey.com/en/products/detail/yageo/RC0603FR-073R3L/5918348?s=N4IgTCBcDaIEoGEAMA2JBmAYnAtEg7OnOgDIgC6AvkA
footprint RES-0603
pins: 1, 2

## RC0603FR-074K7L
designator R?, comment 4.7K
100mW 4.7kΩ 75V Thick Film Resistor ±100ppm/℃ ±1% 0603 Chip Resistor - Surface Mount RoHS; Manufacturer: YAGEO; Mfr.Part #: RC0603FR-074K7L; Package: 0603; LCSC Part #: C99782; DigiKey Part Number: 311-4.70KHRTR-ND; ComponentLink1Description: Link; ComponentLink1URL: https://www.lcsc.com/product-detail/C99782.html?s_z=n_4.7K; ComponentLink2Description: Link 1; ComponentLink2URL: https://www.digikey.com/en/products/detail/yageo/RC0603FR-074K7L/727212?s=N4IgTCBcDaIEoGEAMA2JBmAYnAtEg7ACwDS%2BAMiALoC%2BQA
footprint RES-0603
pins: 1, 2

## RC0603FR-075K6L
designator R?, comment 5.6K
100mW 5.6kΩ 75V Thick Film Resistor ±100ppm/℃ ±1% 0603 Chip Resistor - Surface Mount RoHS; Manufacturer: YAGEO; Mfr.Part #: RC0603FR-075K6L; Package: 0603; LCSC Part #: C114627; DigiKey Part Number: 311-5.60KHRTR-ND; ComponentLink1Description: Link; ComponentLink1URL: https://www.lcsc.com/product-detail/C114627.html?s_z=n_5.6K; ComponentLink2Description: Link 1; ComponentLink2URL: https://www.digikey.com/en/products/detail/yageo/RC0603FR-075K6L/727275?s=N4IgTCBcDaIEoGEAMA2JBmAYnAtEg7AKwDSKAMiALoC%2BQA
footprint RES-0603
pins: 1, 2

## RC0603FR-076K8L
designator R?, comment 6.8K
100mW 6.8kΩ 75V Thick Film Resistor ±100ppm/℃ ±1% 0603 Chip Resistor - Surface Mount RoHS; Manufacturer: YAGEO; Mfr.Part #: RC0603FR-076K8L; Package: 0603; LCSC Part #: C114632; DigiKey Part Number: 311-6.80KHRTR-ND; ComponentLink1Description: Link; ComponentLink1URL: https://www.lcsc.com/product-detail/C114632.html?s_z=n_6.8K; ComponentLink2Description: Link 1; ComponentLink2URL: https://www.digikey.com/en/products/detail/yageo/RC0603FR-076K8L/727323?s=N4IgTCBcDaIEoGEAMA2JBmAYnAtEg7CgNIAcAMiALoC%2BQA
footprint RES-0603
pins: 1, 2

## RC0603FR-0710KL
designator R?, comment 10K
100mW 10kΩ 75V Thick Film Resistor ±100ppm/℃ ±1% 0603 Chip Resistor - Surface Mount RoHS; Manufacturer: YAGEO; Mfr.Part #: RC0603FR-0710KL; Package: 0603; LCSC Part #: C98220; DigiKey Part Number: 311-10.0KHRTR-ND; ComponentLink1Description: Link; ComponentLink1URL: https://www.lcsc.com/product-detail/C98220.html?s_z=n_C98220; ComponentLink2Description: Link 1; ComponentLink2URL: https://www.digikey.com/en/products/detail/yageo/RC0603FR-0710KL/726880?s=N4IgTCBcDaIMwEYEFoEAYB0aDSAJASgCr7IByAIiALoC%2BQA
footprint RES-0603
pins: 1, 2

## RC0603FR-0710RL
designator R?, comment 10R
100mW 10Ω 75V Thick Film Resistor ±1% ±200ppm/℃ 0603 Chip Resistor - Surface Mount RoHS; Manufacturer: YAGEO; Mfr.Part #: RC0603FR-0710RL; Package: 0603; LCSC Part #: C109318; DigiKey Part Number: 311-10.0HRTR-ND; ComponentLink1Description: Link; ComponentLink1URL: https://www.lcsc.com/product-detail/C109318.html?s_z=n_10R; ComponentLink2Description: Link 1; ComponentLink2URL: https://www.digikey.com/en/products/detail/yageo/RC0603FR-0710RL/726879?s=N4IgTCBcDaIMwEYEFoEAYB0aASAlAKrsgHIAiIAugL5A
footprint RES-0603
pins: 1, 2

## RC0603FR-0712KL
designator R?, comment 12K
12kΩ 100mW 75V Thick Film Resistor ±100ppm/℃ ±1% 0603 Chip Resistor - Surface Mount RoHS; Manufacturer: YAGEO; Mfr.Part #: RC0603FR-0712KL; Package: 0603; LCSC Part #: C114659; DigiKey Part Number: 311-12.0KHRTR-ND; ComponentLink1Description: Link; ComponentLink1URL: https://www.lcsc.com/product-detail/C114659.html?s_z=n_12K; ComponentLink2Description: Link 1; ComponentLink2URL: https://www.digikey.com/en/products/detail/yageo/RC0603FR-0712KL/726913?s=N4IgTCBcDaIEoGEAMA2JBmAYnAtEg7AIxgDSAMiALoC%2BQA
footprint RES-0603
pins: 1, 2

## RC0603FR-0715KL
designator R?, comment 15K
15kΩ 100mW 75V Thick Film Resistor ±100ppm/℃ ±1% 0603 Chip Resistor - Surface Mount RoHS; Manufacturer: YAGEO; Mfr.Part #: RC0603FR-0715KL; Package: 0603; LCSC Part #: C114661; DigiKey Part Number: 311-15.0KHRTR-ND; ComponentLink1Description: Link; ComponentLink1URL: https://www.lcsc.com/product-detail/C114661.html; ComponentLink2Description: Link 1; ComponentLink2URL: https://www.digikey.com/en/products/detail/yageo/RC0603FR-0715KL/726953?s=N4IgTCBcDaIEoGEAMA2JBmAYnAtEg7AIwCsA0gDIgC6AvkA
footprint RES-0603
pins: 1, 2

## RC0603FR-0720KL
designator R?, comment 20K
100mW 20kΩ 75V Thick Film Resistor ±100ppm/℃ ±1% 0603 Chip Resistor - Surface Mount RoHS; Manufacturer: YAGEO; Mfr.Part #: RC0603FR-0720KL; Package: 0603; LCSC Part #: C105575; DigiKey Part Number: 311-20.0KHRTR-ND; ComponentLink1Description: Link; ComponentLink1URL: https://www.lcsc.com/product-detail/C105575.html?s_z=n_C105575; ComponentLink2Description: Link 1; ComponentLink2URL: https://www.digikey.com/en/products/detail/yageo/RC0603FR-0720KL/727040?s=N4IgTCBcDaIEoGEAMA2JBmAYnAtEg7GEgNIAyIAugL5A
footprint RES-0603
pins: 1, 2

## RC0603FR-0722KL
designator R?, comment 22K
100mW 22kΩ 75V Thick Film Resistor ±100ppm/℃ ±1% 0603 Chip Resistor - Surface Mount RoHS; Manufacturer: YAGEO; Mfr.Part #: RC0603FR-0722KL; Package: 0603; LCSC Part #: C114065; DigiKey Part Number: 311-22.0KHRTR-ND; ComponentLink1Description: Link; ComponentLink1URL: https://www.lcsc.com/product-detail/C114065.html?s_z=n_22K; ComponentLink2Description: Link 1; ComponentLink2URL: https://www.digikey.com/en/products/detail/yageo/RC0603FR-0722KL/727056?s=N4IgTCBcDaIEoGEAMA2JBmAYnAtEg7GGANIAyIAugL5A
footprint RES-0603
pins: 1, 2

## RC0603FR-0722RL
designator R?, comment 22R
22Ω 100mW 75V Thick Film Resistor ±100ppm/℃ ±1% 0603 Chip Resistor - Surface Mount RoHS; Manufacturer: YAGEO; Mfr.Part #: RC0603FR-0722RL; Package: 0603; LCSC Part #: C107701; DigiKey Part Number: 311-22.0HRTR-ND; ComponentLink1Description: Link; ComponentLink1URL: https://www.lcsc.com/product-detail/C107701.html?s_z=n_22R&spm=wm.ssy.bg.2.xh&lcsc_vid=QFJYVlFTFlleVwVeQQMNXlcCTwILBlVVElVeVlQERlYxVlNRQ1FfUV1fQFBaUTsOAxUeFF5JWBYZEEoKFBINSQcJGk4dAgUUFAk%3D; ComponentLink2Description: Link 1; ComponentLink2URL: https://www.digikey.com/en/products/detail/yageo/RC0603FR-0722RL/727055?s=N4IgTCBcDaIEoGEAMA2JBmAYnAtEg7GGHADIgC6AvkA
footprint RES-0603
pins: 1, 2

## RC0603FR-0724KL
designator R?, comment 24K
100mW 24kΩ 75V Thick Film Resistor ±100ppm/℃ ±1% 0603 Chip Resistor - Surface Mount RoHS; Manufacturer: YAGEO; Mfr.Part #: RC0603FR-0724KL; Package: 0603; LCSC Part #: C137760; DigiKey Part Number: 311-24.0KHRTR-ND; ComponentLink1Description: Link; ComponentLink1URL: https://www.lcsc.com/product-detail/C137760.html?s_z=n_24K; ComponentLink2Description: Link 1; ComponentLink2URL: https://www.digikey.com/en/products/detail/yageo/RC0603FR-0724KL/727076?s=N4IgTCBcDaIEoGEAMA2JBmAYnAtEg7GACwDSAMiALoC%2BQA
footprint RES-0603
pins: 1, 2

## RC0603FR-0727KL
designator R?, comment 27K
27kΩ 100mW 75V Thick Film Resistor ±100ppm/℃ ±1% 0603 Chip Resistor - Surface Mount RoHS; Manufacturer: YAGEO; Mfr.Part #: RC0603FR-0727KL; Package: 0603; LCSC Part #: C114614; DigiKey Part Number: 311-27.0KHRTR-ND; ComponentLink1Description: Link; ComponentLink1URL: https://www.lcsc.com/product-detail/C114614.html?s_z=n_27K; ComponentLink2Description: Link 1; ComponentLink2URL: https://www.digikey.com/en/products/detail/yageo/RC0603FR-0727KL/727100?s=N4IgTCBcDaIEoGEAMA2JBmAYnAtEg7GPgNIAyIAugL5A
footprint RES-0603
pins: 1, 2

## RC0603FR-0730KL
designator R?, comment 30K
100mW 30kΩ 75V Thick Film Resistor ±100ppm/℃ ±1% 0603 Chip Resistor - Surface Mount RoHS; Manufacturer: YAGEO; Mfr.Part #: RC0603FR-0730KL; Package: 0603; LCSC Part #: C100001; DigiKey Part Number: 311-30.0KHRTR-ND; ComponentLink1Description: Link; ComponentLink1URL: https://www.lcsc.com/product-detail/C100001.html?s_z=n_30K; ComponentLink2Description: Link 1; ComponentLink2URL: https://www.digikey.com/en/products/detail/yageo/RC0603FR-0730KL/727140?s=N4IgTCBcDaIEoGEAMA2JBmAYnAtEg7OkgNIAyIAugL5A
footprint RES-0603
pins: 1, 2

## RC0603FR-0733KL
designator R?, comment 33K
100mW 33kΩ 75V Thick Film Resistor ±100ppm/℃ ±1% 0603 Chip Resistor - Surface Mount RoHS; Manufacturer: YAGEO; Mfr.Part #: RC0603FR-0733KL; Package: 0603; LCSC Part #: C126359; DigiKey Part Number: 311-33.0KHRTR-ND; ComponentLink1Description: Link; ComponentLink1URL: https://www.lcsc.com/product-detail/C126359.html?s_z=n_33K; ComponentLink2Description: Link 1; ComponentLink2URL: https://www.digikey.com/en/products/detail/yageo/RC0603FR-0733KL/727159?s=N4IgTCBcDaIEoGEAMA2JBmAYnAtEg7OugNIAyIAugL5A
footprint RES-0603
pins: 1, 2

## RC0603FR-0733RL
designator R?, comment 33R
100mW 33Ω 75V Thick Film Resistor ±100ppm/℃ ±1% 0603 Chip Resistor - Surface Mount RoHS; Manufacturer: YAGEO; Mfr.Part #: RC0603FR-0733RL; Package: 0603; LCSC Part #: C108661; DigiKey Part Number: 13-RC0603FR-0733RLTR-ND; ComponentLink1Description: Link; ComponentLink1URL: https://www.lcsc.com/product-detail/C108661.html?s_z=n_33r; ComponentLink2Description: Link 1; ComponentLink2URL: https://www.digikey.com/en/products/detail/yageo/RC0603FR-0733RL/727158?s=N4IgTCBcDaIEoGEAMA2JBmAYnAtEg7OunADIgC6AvkA
footprint RES-0603
pins: 1, 2

## RC0603FR-0739KL
designator R?, comment 39K
100mW Thick Film Resistors 75V ±100ppm/℃ ±1% 39kΩ 0603 Chip Resistor - Surface Mount ROHS; Manufacturer: YAGEO; Mfr.Part #: RC0603FR-0739KL; Package: 0603
footprint RES-0603
pins: 1, 2

## RC0603FR-0747KL
designator R?, comment 4.7K
100mW 47kΩ 75V Thick Film Resistor ±100ppm/℃ ±1% 0603 Chip Resistor - Surface Mount RoHS; Manufacturer: YAGEO; Mfr.Part #: RC0603FR-0747KL; Package: 0603; LCSC Part #: C105579; DigiKey Part Number: 311-47.0KHRTR-ND; ComponentLink1Description: Link; ComponentLink1URL: https://www.lcsc.com/product-detail/C105579.html; ComponentLink2Description: Link 1; ComponentLink2URL: https://www.digikey.com/en/products/detail/yageo/RC0603FR-0747KL/727253?s=N4IgTCBcDaIEoGEAMA2JBmAYnAtEg7ACz4DSAMiALoC%2BQA
footprint RES-0603
pins: 1, 2

## RC0603FR-0751KL
designator R?, comment 51K
100mW 51kΩ 75V Thick Film Resistor ±100ppm/℃ ±1% 0603 Chip Resistor - Surface Mount RoHS; Manufacturer: YAGEO; Mfr.Part #: RC0603FR-0751KL; Package: 0603; LCSC Part #: C107231; DigiKey Part Number: 311-51.0KHRTR-ND; ComponentLink1Description: Link; ComponentLink1URL: https://www.lcsc.com/product-detail/C107231.html; ComponentLink2Description: Link 1; ComponentLink2URL: https://www.digikey.com/en/products/detail/yageo/RC0603FR-0751KL/727282?s=N4IgTCBcDaIEoGEAMA2JBmAYnAtEg7AKwCMA0gDIgC6AvkA
footprint RES-0603
pins: 1, 2

## RC0603FR-0759KL
designator R?, comment 59K
100mW Thick Film Resistors 75V ±100ppm/℃ ±1% 59kΩ 0603 Chip Resistor - Surface Mount ROHS; Manufacturer: YAGEO; Mfr.Part #: RC0603FR-0759KL; Package: 0603
footprint RES-0603
pins: 1, 2

## RC0603FR-07100KL
designator R?, comment 100K
100mW 100kΩ 75V Thick Film Resistor ±100ppm/℃ ±1% 0603 Chip Resistor - Surface Mount RoHS; Manufacturer: YAGEO; Mfr.Part #: RC0603FR-07100KL; Package: 0603; LCSC Part #: C14675; DigiKey Part Number: 311-100KHRTR-ND; ComponentLink1Description: Link; ComponentLink1URL: https://www.lcsc.com/product-detail/C14675.html?s_z=n_RC0603FR-07100KL; ComponentLink2Description: Link 1; ComponentLink2URL: https://www.digikey.com/en/products/detail/yageo/RC0603FR-07100KL/726889?s=N4IgTCBcDaIEoGEAMA2JBmAYnAtEg7AIxJIDSAMiALoC%2BQA
footprint RES-0603
pins: 1, 2

## RC0603FR-07100RL
designator R?, comment 100R
100mW 100Ω 75V Thick Film Resistor ±100ppm/℃ ±1% 0603 Chip Resistor - Surface Mount RoHS; Manufacturer: YAGEO; Mfr.Part #: RC0603FR-07100KL; Package: 0603; LCSC Part #: C105588; DigiKey Part Number: 311-100HRTR-ND; ComponentLink1Description: Link; ComponentLink1URL: https://www.lcsc.com/product-detail/C105588.html?s_z=n_RC0603FR-07100RL; ComponentLink2Description: Link 1; ComponentLink2URL: https://www.digikey.com/en/products/detail/yageo/RC0603FR-07100RL/726888?s=N4IgTCBcDaIEoGEAMA2JBmAYnAtEg7AIxJJwAyIAugL5A
footprint RES-0603
pins: 1, 2

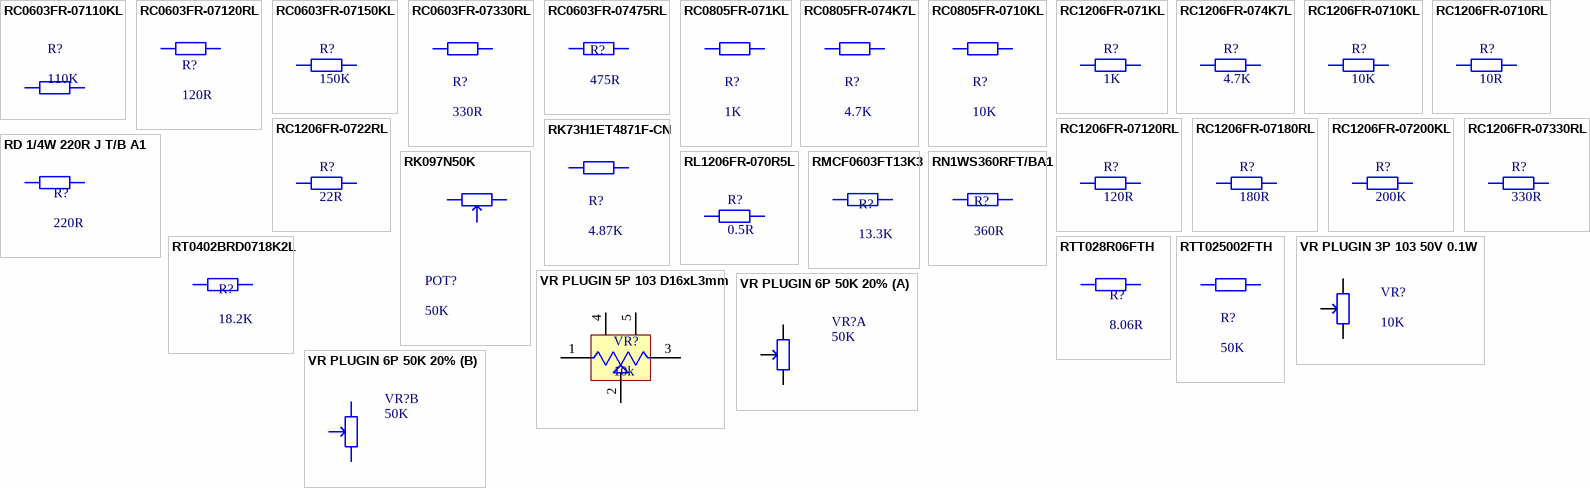
[diagram p3: symbols RC0603FR-07110KL to VR PLUGIN 6P 50K 20%]

## RC0603FR-07110KL
designator R?, comment 110K
110kΩ 100mW 75V Thick Film Resistor ±100ppm/℃ ±1% 0603 Chip Resistor - Surface Mount RoHS; Manufacturer: YAGEO; Mfr.Part #: RC0603FR-07110KL; Package: 0603; LCSC Part #: C137807; DigiKey Part Number: 311-110KHRTR-ND; ComponentLink1Description: Link; ComponentLink1URL: https://www.lcsc.com/product-detail/C137807.html?s_z=n_C137807; ComponentLink2Description: Link 1; ComponentLink2URL: https://www.digikey.com/en/products/detail/yageo/RC0603FR-07110KL/726905?s=N4IgTCBcDaIEoGEAMA2JBmAYnAtEg7AIyFIDSAMiALoC%2BQA
footprint RES-0603
pins: 1, 2

## RC0603FR-07120RL
designator R?, comment 120R
100mW 120Ω 75V Thick Film Resistor ±100ppm/℃ ±1% 0603 Chip Resistor - Surface Mount RoHS; Manufacturer: YAGEO; Mfr.Part #: RC0603FR-07120RL; Package: 0603; LCSC Part #: C114640; DigiKey Part Number: 311-120HRTR-ND; ComponentLink1Description: Link; ComponentLink1URL: https://www.lcsc.com/product-detail/C114640.html?s_z=n_120R; ComponentLink2Description: Link 1; ComponentLink2URL: https://www.digikey.com/en/products/detail/yageo/RC0603FR-07120RL/726920?s=N4IgTCBcDaIEoGEAMA2JBmAYnAtEg7AIxhJwAyIAugL5A
footprint RES-0603
pins: 1, 2

## RC0603FR-07150KL
designator R?, comment 150K
100mW 150kΩ 75V Thick Film Resistor ±100ppm/℃ ±1% 0603 Chip Resistor - Surface Mount RoHS; Manufacturer: YAGEO; Mfr.Part #: RC0603FR-07150KL; Package: 0603; LCSC Part #: C114660; DigiKey Part Number: 311-150KHRTR-ND; ComponentLink1Description: Link; ComponentLink1URL: https://www.lcsc.com/product-detail/C114660.html; ComponentLink2Description: Link 1; ComponentLink2URL: https://www.digikey.com/en/products/detail/yageo/RC0603FR-07150KL/726959?s=N4IgTCBcDaIEoGEAMA2JBmAYnAtEg7AIwCsSA0gDIgC6AvkA
footprint RES-0603
pins: 1, 2

## RC0603FR-07330RL
designator R?, comment 330R
100mW 330Ω 75V Thick Film Resistor ±100ppm/℃ ±1% 0603 Chip Resistor - Surface Mount RoHS; Manufacturer: YAGEO; Mfr.Part #: RC0603FR-07330RL; Package: 0603; LCSC Part #: C105881; DigiKey Part Number: 311-330HRTR-ND
footprint RES-0603
pins: 1, 2

## RC0603FR-07475RL
designator R?, comment 475R
100mW 475Ω 75V Thick Film Resistor ±100ppm/℃ ±1% 0603 Chip Resistor - Surface Mount RoHS; Manufacturer: YAGEO; Mfr.Part #: RC0603FR-07475RL; Package: 0603; LCSC Part #: C137716; DigiKey Part Number: 311-475HRTR-ND; ComponentLink1Description: Link; ComponentLink1URL: https://www.lcsc.com/product-detail/C137716.html?s_z=n_475R; ComponentLink2Description: Link 1; ComponentLink2URL: https://www.digikey.com/en/products/detail/yageo/RC0603FR-07475RL/727258?s=N4IgTCBcDaIEoGEAMA2JBmAYnAtEg7ACz4CscAMiALoC%2BQA
footprint RES-0603
pins: 1, 2

## RC0805FR-071KL
designator R?, comment 1K
1kΩ 125mW 150V Thick Film Resistor ±100ppm/℃ ±1% 0805 Chip Resistor - Surface Mount RoHS; Manufacturer: YAGEO; Mfr.Part #: RC0805FR-071KL; Package: 0805; LCSC Part #: C95781; DigiKey Part Number: 311-1.00KCRTR-ND
footprint RES-0805-1
footprint RES-0805
pins: 1, 2